# Altium footprint library Components - 24.02.23 - 13.59.PcbLib: 3 footprints
Each footprint in its own frame and in the unit in brackets; x right, y up, seen from the top. Pads: shape width x height; smd on the part's side, far side on the other; paste and mask are expansions set on the pad; w line width, h text height; cw(c..) or ccw(c..) is an arc to the next point about the centre after c.
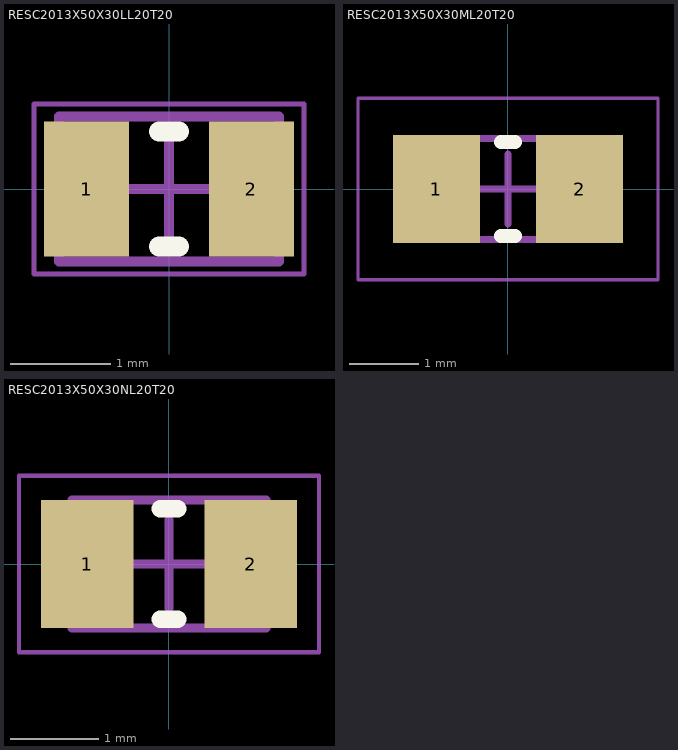
[diagram p0: the footprints below, top view; thin cyan lines are the x and y axes]

## RESC2013X50X30LL20T20 [mm] "Chip Resistor, 2-Leads, Body 2.00x1.25mm, IPC High Density"
height 0.5
pads (2):
  rect 0.85x1.35 smd: 1(-0.825,0) 2(0.825,0)
Top Overlay:
  lines w0.2: -0.1,-0.575 0.1,-0.575 ; -0.1,0.575 0.1,0.575
Mechanical 13:
  lines w0.1: -1.1,-0.725 -1.1,0.725 1.1,0.725 1.1,-0.725 -1.1,-0.725
Mechanical 15:
  lines w0.05: -1.35,-0.85 -1.35,0.85 1.35,0.85 1.35,-0.85 -1.35,-0.85
  lines w0.1: -0.5,0 0.5,0 ; 0,-0.5 0,0.5
3D body: height 0.5, standoff 0, extent -0.8,-0.725 0.8,0.725
3D body: height 0.5, standoff 0, extent -1.1,-0.725 -0.8,0.725
3D body: height 0.5, standoff 0, extent 0.8,-0.725 1.1,0.725

## RESC2013X50X30ML20T20 [mm] "Chip Resistor, 2-Leads, Body 2.00x1.25mm, IPC Low Density"
height 0.5
pads (2):
  rect 1.25x1.55 smd: 1(-1.025,0) 2(1.025,0)
Top Overlay:
  lines w0.2: -0.1,-0.675 0.1,-0.675 ; -0.1,0.675 0.1,0.675
Mechanical 13:
  lines w0.1: -1.1,-0.725 1.1,-0.725 1.1,0.725 -1.1,0.725 -1.1,-0.725
Mechanical 15:
  lines w0.05: -2.15,-1.3 2.15,-1.3 2.15,1.3 -2.15,1.3 -2.15,-1.3
  lines w0.1: -0.5,0 0.5,0 ; 0,-0.5 0,0.5
3D body: height 0.5, standoff 0, extent 0.8,-0.725 1.1,0.725
3D body: height 0.5, standoff 0, extent -1.1,-0.725 -0.8,0.725
3D body: height 0.5, standoff 0, extent -0.8,-0.725 0.8,0.725

## RESC2013X50X30NL20T20 [mm] "Chip Resistor, 2-Leads, Body 2.00x1.25mm, IPC Medium Density"
height 0.5
pads (2):
  rect 1.05x1.45 smd: 1(-0.925,0) 2(0.925,0)
Top Overlay:
  lines w0.2: -0.1,-0.625 0.1,-0.625 ; -0.1,0.625 0.1,0.625
Mechanical 13:
  lines w0.1: -1.1,-0.725 1.1,-0.725 1.1,0.725 -1.1,0.725 -1.1,-0.725
Mechanical 15:
  lines w0.05: -1.7,-1 1.7,-1 1.7,1 -1.7,1 -1.7,-1
  lines w0.1: -0.5,0 0.5,0 ; 0,-0.5 0,0.5
3D body: height 0.5, standoff 0, extent 0.8,-0.725 1.1,0.725
3D body: height 0.5, standoff 0, extent -1.1,-0.725 -0.8,0.725
3D body: height 0.5, standoff 0, extent -0.8,-0.725 0.8,0.725